# EAGLE library part CCS811 (library LARS_409_SENSORS)
Low Power Digital Sensor For Ind
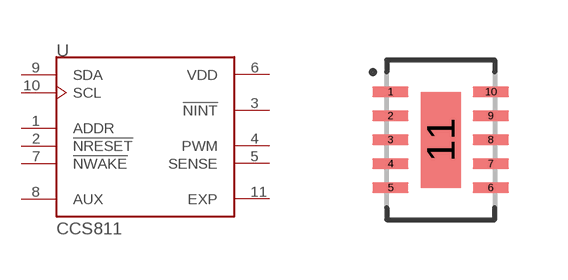
[diagram p1: symbol with the pads of 270X400X110; footprint 270X400X110]

Designator prefix U

## CCS811 (AVAILABILITY: Unavailable; DESCRIPTION: LOW POWER DIGITAL SENSOR FOR IND; MF: ams; MP: CCS811; PACKAGE: LGA-11 ams; PRICE: None)  [270X400X110]
1  ADDR  in
2  !NRESET  in
3  !NINT  out
4  PWM  out
5  SENSE  in
6  VDD  pwr
7  !NWAKE  in
8  AUX  pas
9  SDA
10  SCL  in
11  EXP  pwr

## Footprint 270X400X110 (pad centres in mm)
smd 0.91 x 0.28: 1 -1.255,1.2; 2 -1.255,0.6; 3 -1.255,0; 4 -1.255,-0.6; 5 -1.255,-1.2; 6 1.255,-1.2; 7 1.255,-0.6; 8 1.255,0; 9 1.255,0.6; 10 1.255,1.2
smd 1 x 2.4: 11 0,0